# EAGLE library part DS05 (library switch-dil)
DIL/CODE SWITCH
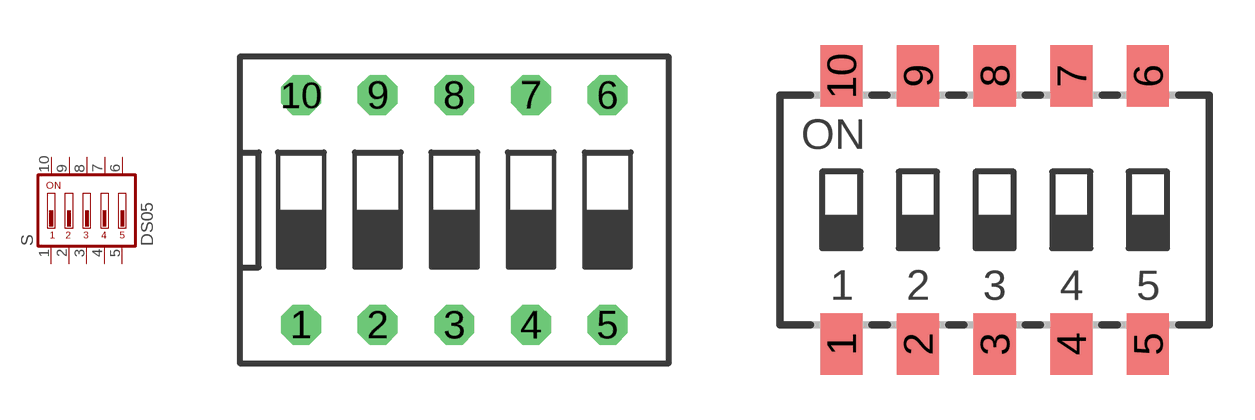
[diagram p2: symbol with the pads of DS-05; footprints DS-05, SDA05SK]

Designator prefix S

## DS05  [DS-05]
1  1  pas
2  2  pas
3  3  pas
4  4  pas
5  5  pas
6  6  pas
7  7  pas
8  8  pas
9  9  pas
10  10  pas

## DS05-SDA05SK  [SDA05SK]
Pads as for DS-05

## DS05-DA-05  [DA-05]
Pads as for DS-05

## Footprint DS-05 (pad centres in mm)
DIL/CODE SWITCH Mors distributor Buerklin, 17G556
drill 0.813 octagon: 1 -5.08,-3.81; 2 -2.54,-3.81; 3 0,-3.81; 4 2.54,-3.81; 5 5.08,-3.81; 6 5.08,3.81; 7 2.54,3.81; 8 0,3.81; 9 -2.54,3.81; 10 -5.08,3.81

## Footprint SDA05SK (pad centres in mm)
C&K SDA Series
smd 1.397 x 2.032: 1 -5.08,-4.445; 2 -2.54,-4.445; 3 0,-4.445; 4 2.54,-4.445; 5 5.08,-4.445; 6 5.08,4.445; 7 2.54,4.445; 8 0,4.445; 9 -2.54,4.445; 10 -5.08,4.445

## Footprint DA-05 (pad centres in mm)
DIL/CODE SWITCH Mors distributor Buerklin, 17G586
drill 0.813 octagon: 1 -5.08,-1.27; 2 -2.54,-1.27; 3 0,-1.27; 4 2.54,-1.27; 5 5.08,-1.27; 6 5.08,1.27; 7 2.54,1.27; 8 0,1.27; 9 -2.54,1.27; 10 -5.08,1.27